# EAGLE library part AD8397ARDZ (library AD8397ARDZ)
Rail-to-Rail, High Output Current Amplifier Source: Datasheet <https://www.analog.com/AD8397/datasheet>
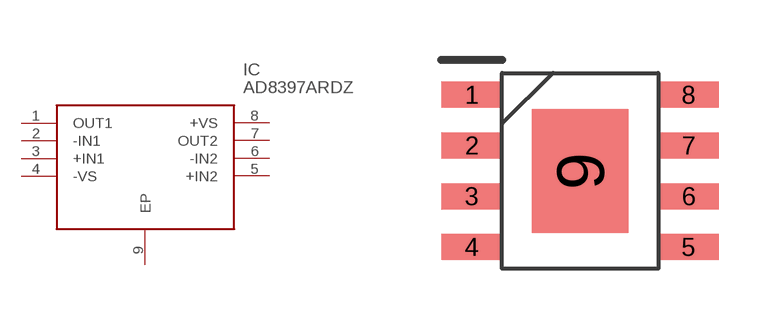
[diagram p0: symbol with the pads of SOIC127P600X175-9N; footprint SOIC127P600X175-9N]

Designator prefix IC

## AD8397ARDZ (DESCRIPTION: Rail-to-Rail, High Output Current Amplifier; HEIGHT: 1.75mm; MANUFACTURER_NAME: Analog Devices; MANUFACTURER_PART_NUMBER: AD8397ARDZ; MOUSER_PART_NUMBER: 584-AD8397ARDZ; MOUSER_PRICE-STOCK: https://www.mouser.co.uk/ProductDetail/Analog-Devices/AD8397ARDZ?qs=%2FtpEQrCGXCzWQPMackckTA%3D%3D)  [SOIC127P600X175-9N]
1  OUT1
2  -IN1
3  +IN1
4  -VS
5  +IN2
6  -IN2
7  OUT2
8  +VS
9  EP

## Footprint SOIC127P600X175-9N (pad centres in mm)
AD8397ARDZ
smd 1.525 x 0.65: 1 -2.712,1.905; 2 -2.712,0.635; 3 -2.712,-0.635; 4 -2.712,-1.905; 5 2.712,-1.905; 6 2.712,-0.635; 7 2.712,0.635; 8 2.712,1.905
smd 2.41 x 3.098: 9 0,0